# EAGLE library part L298HN (library L298HN)
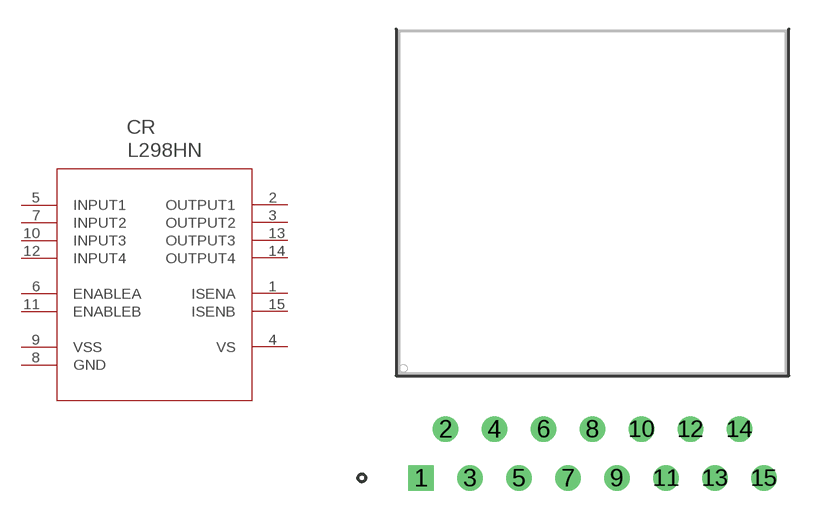
[diagram p0: symbol with the pads of MULTIWATT15_H_STM; footprint MULTIWATT15_H_STM]

Designator prefix CR

## L298HN (BUILT_BY: EMA_UL_Team; MANUFACTURER_PART_NUMBER: L298HN; SOURCELIBRARY: Updates_to_database_2020-11-02; VENDOR: STMicroelectronics)  [MULTIWATT15_H_STM]
1  ISENA  pas
2  OUTPUT1  out
3  OUTPUT2  out
4  VS  pwr
5  INPUT1  in
6  ENABLEA  in
7  INPUT2  in
8  GND  pwr
9  VSS  pwr
10  INPUT3  in
11  ENABLEB  in
12  INPUT4  in
13  OUTPUT3  out
14  OUTPUT4  out
15  ISENB  pas

## Footprint MULTIWATT15_H_STM (pad centres in mm)
drill 0.813 pad 1.321 square: 1 0,0
drill 0.813 pad 1.321: 2 1.27,2.54; 3 2.54,0; 4 3.81,2.54; 5 5.08,0; 6 6.35,2.54; 7 7.62,0; 8 8.89,2.54; 9 10.16,0; 10 11.43,2.54; 11 12.7,0; 12 13.97,2.54; 13 15.24,0; 14 16.51,2.54; 15 17.78,0